# Altium footprint library SCTW100N65G2AG.PCBLIB: 2 footprints
Each footprint in its own frame and in the unit in brackets; x right, y up, seen from the top. Pads: shape width x height; smd on the part's side, far side on the other; paste and mask are expansions set on the pad; w line width, h text height; cw(c..) or ccw(c..) is an arc to the next point about the centre after c.
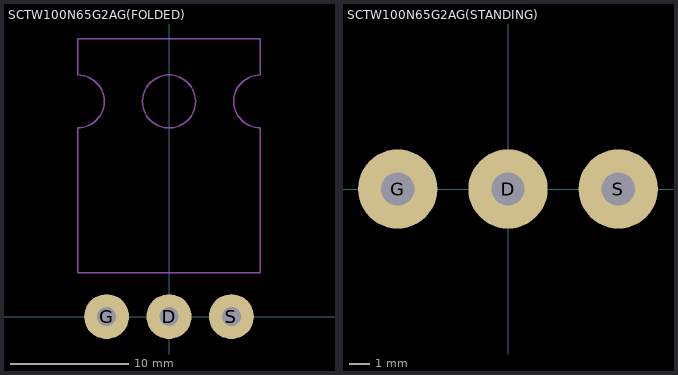
[diagram p0: the footprints below, top view; thin cyan lines are the x and y axes]

## SCTW100N65G2AG(FOLDED) [mil]
pads (3):
  round 150 / inner round 60 / far side round 150 hole 62.99: D(0,0) G(-208.66,0) S(208.66,0)
Mechanical 22:
  circle w5: c0,718.5 r88.58
  lines w5: -305.12,629.92 ccw(c-305.12,718.5) -216.54,718.5 ccw(c-305.12,718.5) -305.12,807.09 ; -304.13,629.92 -304.13,145.67 304.13,145.67 304.13,629.92 ; -304.13,807.09 -304.13,927.17 304.13,927.17 304.13,807.09 ; 305.12,629.92 cw(c305.12,718.5) 216.54,718.5 cw(c305.12,718.5) 305.12,807.09

## SCTW100N65G2AG(STANDING) [mil]
pads (3):
  round 150 / inner round 60 / far side round 150 hole 62.99: D(0,0) G(-208.66,0) S(208.66,0)